# EAGLE library part LM5105 (library ic-TI)
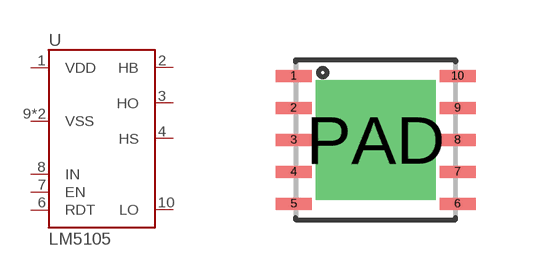
[diagram p44: symbol with the pads of SON10_4_0.8; footprint SON10_4_0.8]

Designator prefix U

## LM5105  [SON10_4_0.8]
1  VDD
2  HB
3  HO
4  HS
6  RDT
7  EN
8  IN
9  VSS
10  LO
PAD  VSS

## Footprint SON10_4_0.8 (pad centres in mm)
smd 0.9 x 0.3: 1 -2.05,1.6; 2 -2.05,0.8; 3 -2.05,0; 4 -2.05,-0.8; 5 -2.05,-1.6; 6 2.05,-1.6; 7 2.05,-0.8; 8 2.05,0; 9 2.05,0.8; 10 2.05,1.6
drill 2 pad 2.6 square: PAD 0,0